# EAGLE library part MTA06 (library con-amp)
AMP connector
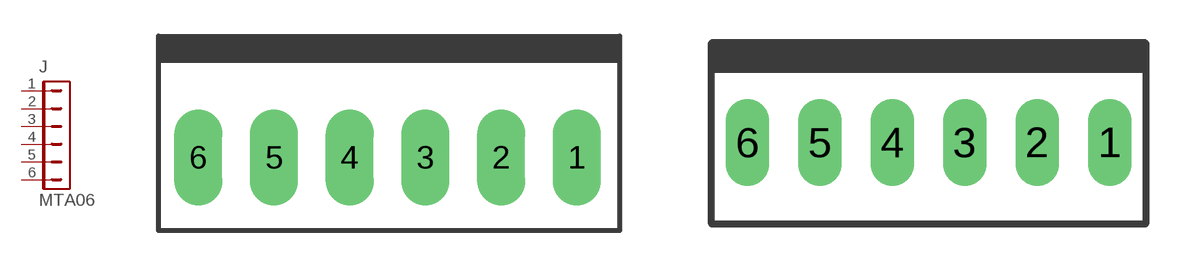
[diagram p111: symbol with the pads of MTA06-156; footprints MTA06-156, MTA06-100]

Designator prefix J

## MTA06-156  [MTA06-156]
1  1  pas
2  2  pas
3  3  pas
4  4  pas
5  5  pas
6  6  pas

## MTA06-100  [MTA06-100]
Pads as for MTA06-156

## Footprint MTA06-156 (pad centres in mm)
MTA Connector - 0.156" pitch
drill 1.676 long: 1 9.906,0; 2 5.944,0; 3 1.981,0; 4 -1.981,0; 5 -5.944,0; 6 -9.906,0

## Footprint MTA06-100 (pad centres in mm)
MTA Connector - 0.1" pitch
drill 1.016 long: 1 6.35,0; 2 3.81,0; 3 1.27,0; 4 -1.27,0; 5 -3.81,0; 6 -6.35,0